# Altium footprint library DF20160711.PcbLib: 86 footprints (part 4 of 6)
Each footprint in its own frame and in the unit in brackets; x right, y up, seen from the top. Pads: shape width x height; smd on the part's side, far side on the other; paste and mask are expansions set on the pad; w line width, h text height; cw(c..) or ccw(c..) is an arc to the next point about the centre after c.
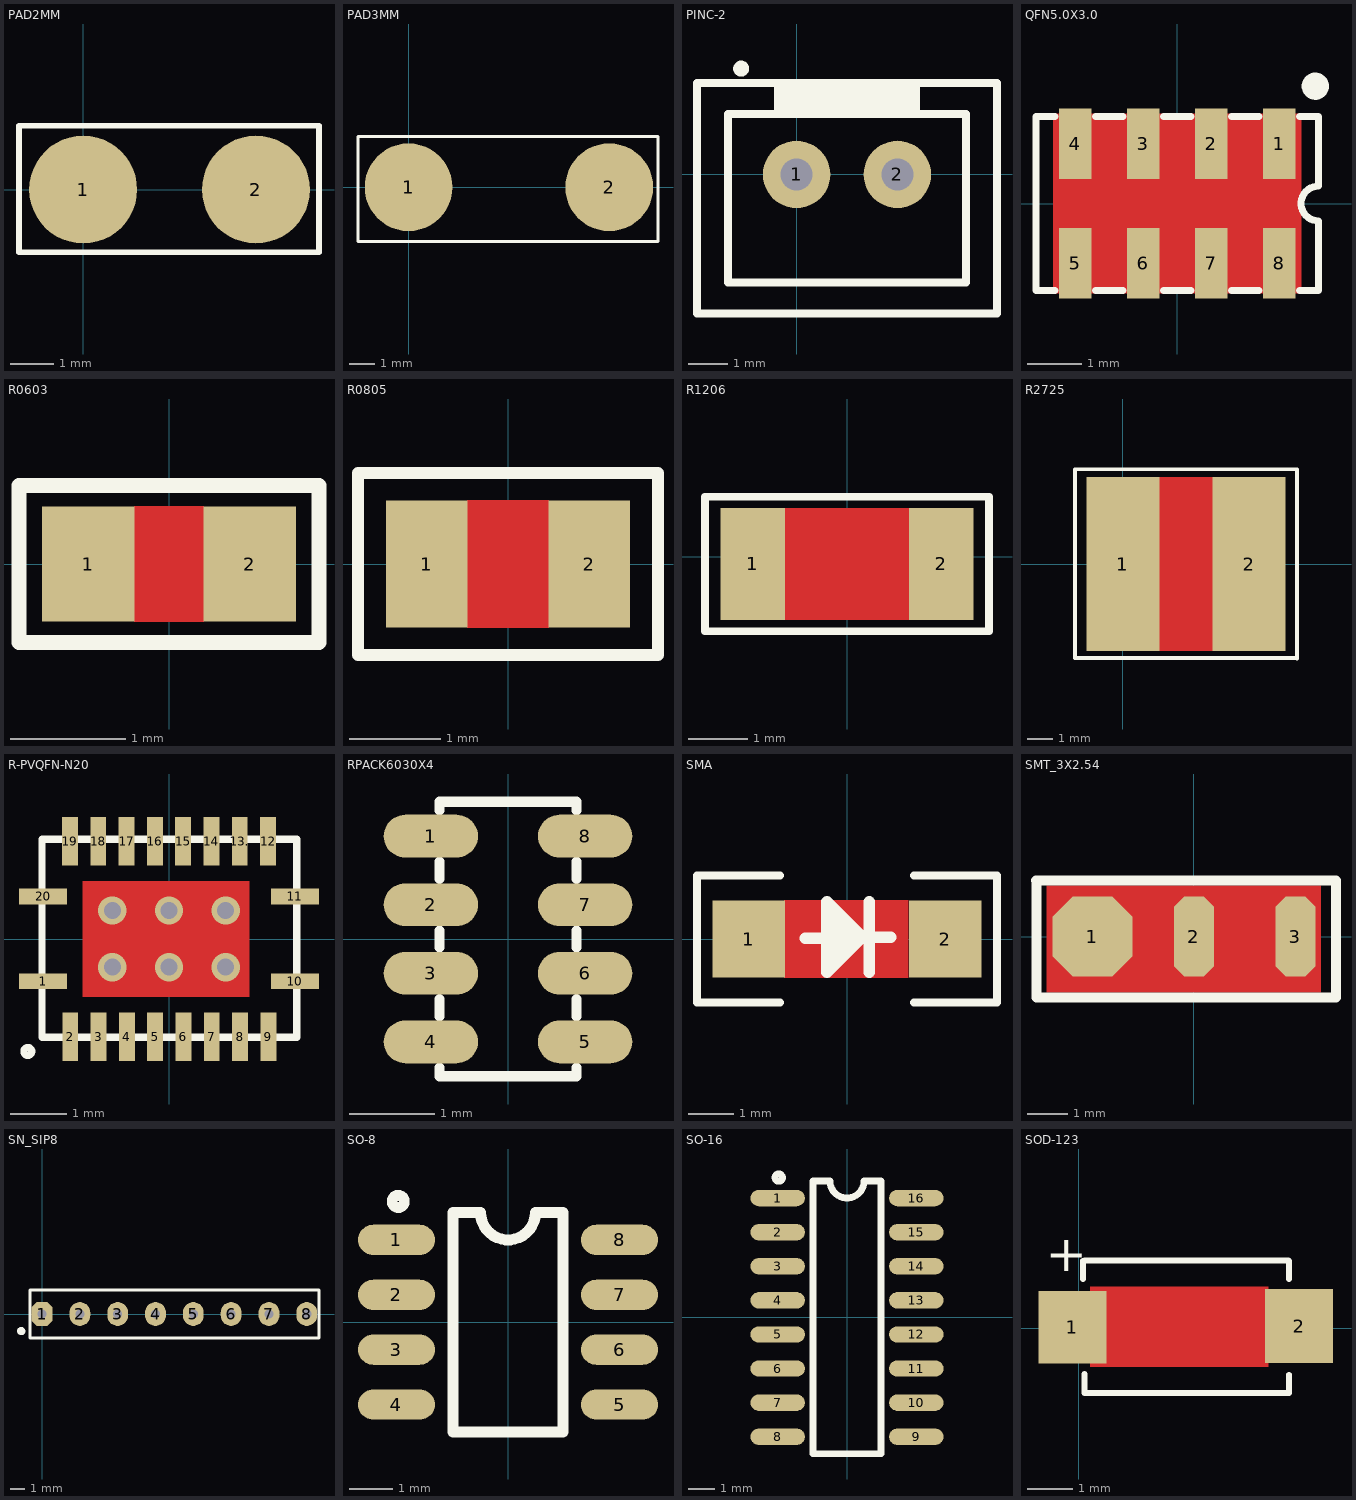
[diagram p3: the footprints below, top view; thin cyan lines are the x and y axes]

## PAD2MM [mm]
pads (2):
  round 2.5 smd: 1(0,0) 2(4,0)
Top Overlay:
  lines w0.13: -1.486,-1.448 5.461,-1.448 5.461,1.473 -1.486,1.473 -1.486,-1.448

## PAD3MM [mm]
pads (2):
  round 3.5 smd: 1(0,0) 2(8,0)
Top Overlay:
  lines w0.13: -2.019,-2.159 -2.019,2.019 9.944,2.019 9.944,-2.159 -2.019,-2.159

## PINC-2 [mm]
height 1.3
pads (2):
  round 1.7 hole 0.8: 1(0,0) 2(2.54,0)
Top Overlay:
  circle w0.2: c-1.397,2.667 r0.1
  rectangle: -0.439,1.52 2.986,2.3
  lines w0.2: -0.47,1.52 -0.47,2.285 ; 3.01,1.52 3.01,2.285 ; -2.51,-3.5 5.05,-3.5 5.05,2.3 -2.51,2.3 -2.51,-3.5 ; -1.73,-2.72 4.27,-2.72 4.27,1.52 -1.73,1.52 -1.73,-2.72

## QFN5.0X3.0 [mm]
height 0.8
pads (8):
  rect 0.6x1.3 smd: 1(1.875,1.1) 2(0.625,1.1) 3(-0.625,1.1) 4(-1.875,1.1) 5(-1.875,-1.1) 6(-0.625,-1.1) 7(0.625,-1.1) 8(1.875,-1.1)
Top Layer:
  pour cut-out: 2.286,1.651 2.286,-1.651 -2.286,-1.651 -2.286,1.651
Top Overlay:
  circle w0.25: c2.54,2.159 r0.125
  lines w0.13: -2.25,-1.6 -2.6,-1.6 -2.6,1.6 -2.25,1.6 ; -1.5,-1.6 -1,-1.6 ; -1.5,1.6 -1,1.6 ; -0.25,-1.6 0.25,-1.6 ; -0.25,1.6 0.25,1.6 ; 1,-1.6 1.5,-1.6 ; 1,1.6 1.5,1.6 ; 2.25,-1.6 2.6,-1.6 2.6,-0.321 cw(c2.6,0) 2.6,0.321 2.6,1.6 2.25,1.6

## R0603 [mm]
pads (2):
  rect 0.8x1 smd: 1(-0.7,0) 2(0.7,0)
Top Layer:
  pour cut-out: -0.3,0.5 -0.3,-0.5 0.3,-0.5 0.3,0.5
Top Overlay:
  lines w0.13: -1.3,-0.68 -1.3,0.68 1.3,0.68 1.3,-0.68 -1.3,-0.68

## R0805 [mm]
height 1.3
pads (2):
  rect 0.9x1.4 smd: 1(-0.893,0) 2(0.893,0)
Top Layer:
  pour cut-out: 0.45,0.7 0.45,-0.7 -0.45,-0.7 -0.45,0.7
Top Overlay:
  lines w0.13: -1.65,-1 -1.65,1 1.65,1 1.65,-1 -1.65,-1

## R1206 [mm]
pads (2):
  rect 1.1x1.9 smd: 1(-1.6,-0.127) 2(1.6,-0.127)
Top Layer:
  pour cut-out: -1.05,0.823 1.05,0.823 1.05,-1.077 -1.05,-1.077
Top Overlay:
  lines w0.13: -2.413,-1.271 -2.413,1.016 2.413,1.016 2.413,-1.27 -2.413,-1.27

## R2725 [mm]
height 1.3
pads (2):
  rect 2.85x6.8 smd: 1(0,0) 2(4.925,0)
Top Layer:
  pour cut-out: 1.425,3.4 3.5,3.4 3.5,-3.4 1.425,-3.4
Top Overlay:
  lines w0.15: 6.775,-3.675 -1.875,-3.675 -1.875,3.7 6.8,3.7 6.8,-3.7

## R-PVQFN-N20 [mm]
pads (20):
  rect 0.85x0.28 smd: 1(-2.225,-0.747) 10(2.225,-0.747) 11(2.225,0.751) 20(-2.225,0.751)
  rect 0.28x0.85 smd: 2(-1.745,-1.727) 3(-1.245,-1.727) 4(-0.745,-1.727) 5(-0.245,-1.727) 6(0.255,-1.727) 7(0.755,-1.727) 8(1.255,-1.727) 9(1.755,-1.727) 12(1.75,1.727) 13.(1.25,1.727) 14(0.75,1.727) 15(0.25,1.727) 16(-0.25,1.727) 17(-0.75,1.727) 18(-1.25,1.727) 19(-1.75,1.727)
via -1,0.502 diameter 0.5 hole 0.3
via 0,0.502 diameter 0.5 hole 0.3
via 1,0.502 diameter 0.5 hole 0.3
via 1,-0.498 diameter 0.5 hole 0.3
via 0,-0.498 diameter 0.5 hole 0.3
via -1,-0.498 diameter 0.5 hole 0.3
Top Layer:
  rectangle: -1.525,-1.023 1.422,1.027
Top Overlay:
  circle w0.127: c-2.494,-1.986 r0.071
  lines w0.127: -2.244,-1.736 2.256,-1.736 2.256,1.764 -2.244,1.764 -2.244,-1.736

## RPACK6030X4 [mm]
height 0.8
pads (8):
  oval 1.1x0.5 smd: 1(-0.9,1.2) 2(-0.9,0.4) 3(-0.9,-0.4) 4(-0.9,-1.2) 5(0.9,-1.2) 6(0.9,-0.4) 7(0.9,0.4) 8(0.9,1.2)
Top Overlay:
  lines w0.12: -0.8,-1.5 -0.8,-1.6 0.8,-1.6 0.8,-1.5 ; -0.8,-0.9 -0.8,-0.7 ; -0.8,-0.1 -0.8,0.1 ; -0.8,0.7 -0.8,0.9 ; -0.8,1.5 -0.8,1.6 0.8,1.6 0.8,1.5 ; 0.8,-0.9 0.8,-0.7 ; 0.8,-0.1 0.8,0.1 ; 0.8,0.7 0.8,0.9

## SMA [mm]
height 1.3
pads (2):
  rect 1.6x1.7 smd: 1(-2.159,0) 2(2.159,0)
Top Layer:
  pour cut-out: -1.375,0.85 1.35,0.85 1.35,-0.85 -1.375,-0.85
Top Overlay:
  rectangle: -0.44,-0.206 0.186,0.319
  rectangle: -0.44,-0.432 -0.014,0.519
  lines w0.18: -1.475,-1.4 -3.3,-1.4 -3.3,1.4 -1.475,1.4 ; 1.475,-1.4 3.3,-1.4 3.3,1.4 1.475,1.4
  lines w0.254: -0.915,0.019 -0.44,0.019 ; -0.44,-0.732 -0.44,0.819 0.336,0.044 -0.44,-0.732 ; 0.486,-0.732 0.486,0.044 ; 0.485,0.819 0.485,0.043 ; 0.96,0.043 0.485,0.043

## SMT_3X2.54 [mm]
pads (3):
  oct 2x2 smd: 1(-2.54,0)
  oct 1x2 smd: 2(0,0) 3(2.54,0)
Top Layer:
  pour cut-out: -3.683,1.27 3.175,1.27 3.175,-1.397 -3.683,-1.397
Top Overlay:
  lines w0.254: -3.954,1.401 3.556,1.401 3.556,-1.524 -3.937,-1.524 -3.937,1.326

## SN_SIP8 [mm]
height 1.3
pads (8):
  oct 1.4x1.6 hole 0.6: 1(0,0)
  oval 1.4x1.6 hole 0.6: 2(2.54,0) 3(5.08,0) 4(7.62,0) 5(10.16,0) 6(12.7,0) 7(15.24,0) 8(17.78,0)
Top Overlay:
  circle w0.25: c-1.397,-1.143 r0.15
  lines w0.2: -0.82,-1.6 18.6,-1.6 18.6,1.6 -0.82,1.6 -0.82,-1.6

## SO-8 [mm]
pads (8):
  oval 1.78x0.7 smd: 1(-2.58,1.905) 2(-2.58,0.635) 3(-2.58,-0.635) 4(-2.58,-1.905) 5(2.58,-1.905) 6(2.58,-0.635) 7(2.58,0.635) 8(2.58,1.905)
Top Overlay:
  circle w0.25: c-2.54,2.794 r0.14
  lines w0.254: -1.27,-2.54 -1.27,2.54 -0.635,2.54 ccw(c0,2.54) 0.635,2.54 1.27,2.54 1.27,-2.54 -1.27,-2.54

## SO-16 [mil]
height 51.18
pads (16):
  oval 80x24 smd: 1(-101.57,175) 2(-101.57,125) 3(-101.57,75) 4(-101.57,25) 5(-101.57,-25) 6(-101.57,-75) 7(-101.57,-125) 8(-101.57,-175) 9(101.57,-175) 10(101.57,-125) 11(101.57,-75) 12(101.57,-25) 13(101.57,25) 14(101.57,75) 15(101.57,125) 16(101.57,175)
Top Overlay:
  circle w9.84: c-100,205 r5.51
  lines w10: -50,-200 -50,200 -25,200 ccw(c0,200) 25,200 50,200 50,-200 -50,-200

## SOD-123 [mm]
pads (2):
  rect 1.5x1.6 smd: 1(-0.141,0.027)
  rect 1.5x1.63 smd: 2(4.858,0.053)
Top Layer:
  pour cut-out: 0.25,0.925 4.173,0.925 4.177,0.921 4.177,-0.844 0.25,-0.844
Top Overlay:
  lines w0.13: 0.099,1.094 0.099,1.494 ; 0.125,-1.421 4.625,-1.421 ; 0.125,-1.408 0.125,-1.008 ; 0.125,1.5 4.625,1.5 ; 4.633,-1.421 4.633,-1.02 ; 4.633,1.088 4.633,1.488
  text "+" at -0.726,1.259 h0.8